# EAGLE library part MC34063A?* (library MC34063A)
Texas Instruments Operating Temperature: 0 to 70°C
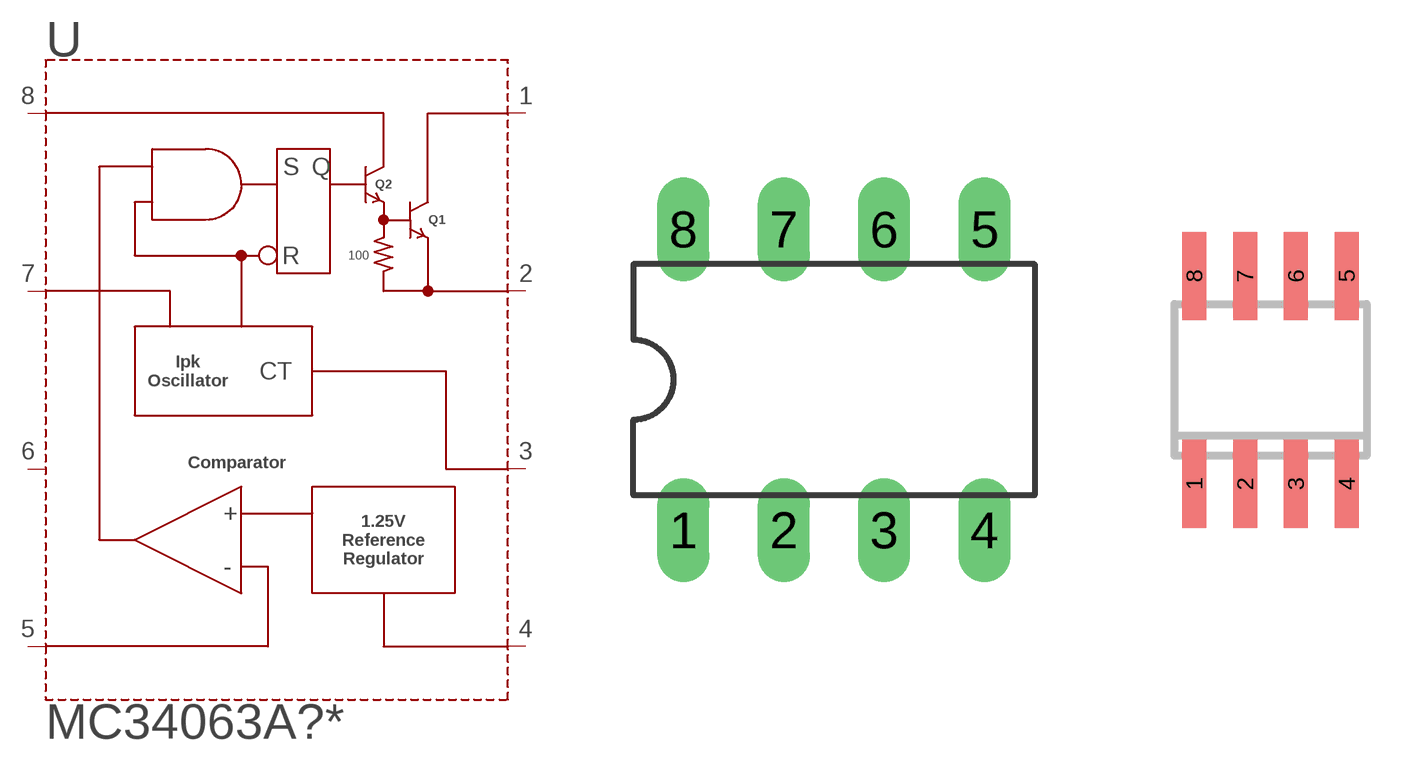
[diagram p4: symbol with the pads of DIL08; footprints DIL08, SO08]

Designator prefix U

## MC34063AP, MC34063APE4  [DIL08]
1  1
2  2
3  3
4  4
5  5
6  6
7  7
8  8

## MC34063AD, MC34063ADE4, MC34063ADG4, MC34063ADR, MC34063ADRE4, MC34063ADRG4  [SO08]
Pads as for DIL08

## MC34063ADRJR, MC34063ADRJRG4  [S-PWSON-N8]
Pads as for DIL08

## Footprint DIL08 (pad centres in mm)
Dual In Line Package
drill 0.813 long: 1 -3.81,-3.81; 2 -1.27,-3.81; 3 1.27,-3.81; 4 3.81,-3.81; 5 3.81,3.81; 6 1.27,3.81; 7 -1.27,3.81; 8 -3.81,3.81

## Footprint SO08 (pad centres in mm)
SMALL OUTLINE INTEGRATED CIRCUIT body 3.9 mm/JEDEC MS-012AA
smd 0.6 x 2.2: 1 -1.905,-2.6; 2 -0.635,-2.6; 3 0.635,-2.6; 4 1.905,-2.6; 5 1.905,2.6; 6 0.635,2.6; 7 -0.635,2.6; 8 -1.905,2.6

## Footprint S-PWSON-N8 (pad centres in mm)
QFN8 Based on S-PWSON-N8 <http://www.ti.com/lit/ml/mpds151b/mpds151b.pdf> drawing from Texas Instruments
smd 0.35 x 0.55: 1 -0.975,-1.85; 2 -0.325,-1.85; 3 0.325,-1.85; 4 0.975,-1.85; 5 0.975,1.85; 6 0.325,1.85; 7 -0.325,1.85; 8 -0.975,1.85
smd 3 x 2.2: EXP 0,0